# Altium schematic symbol library Connectors.SchLib: 80 symbols
Pins are listed as number, name and electrical type; pins without a type are passive.

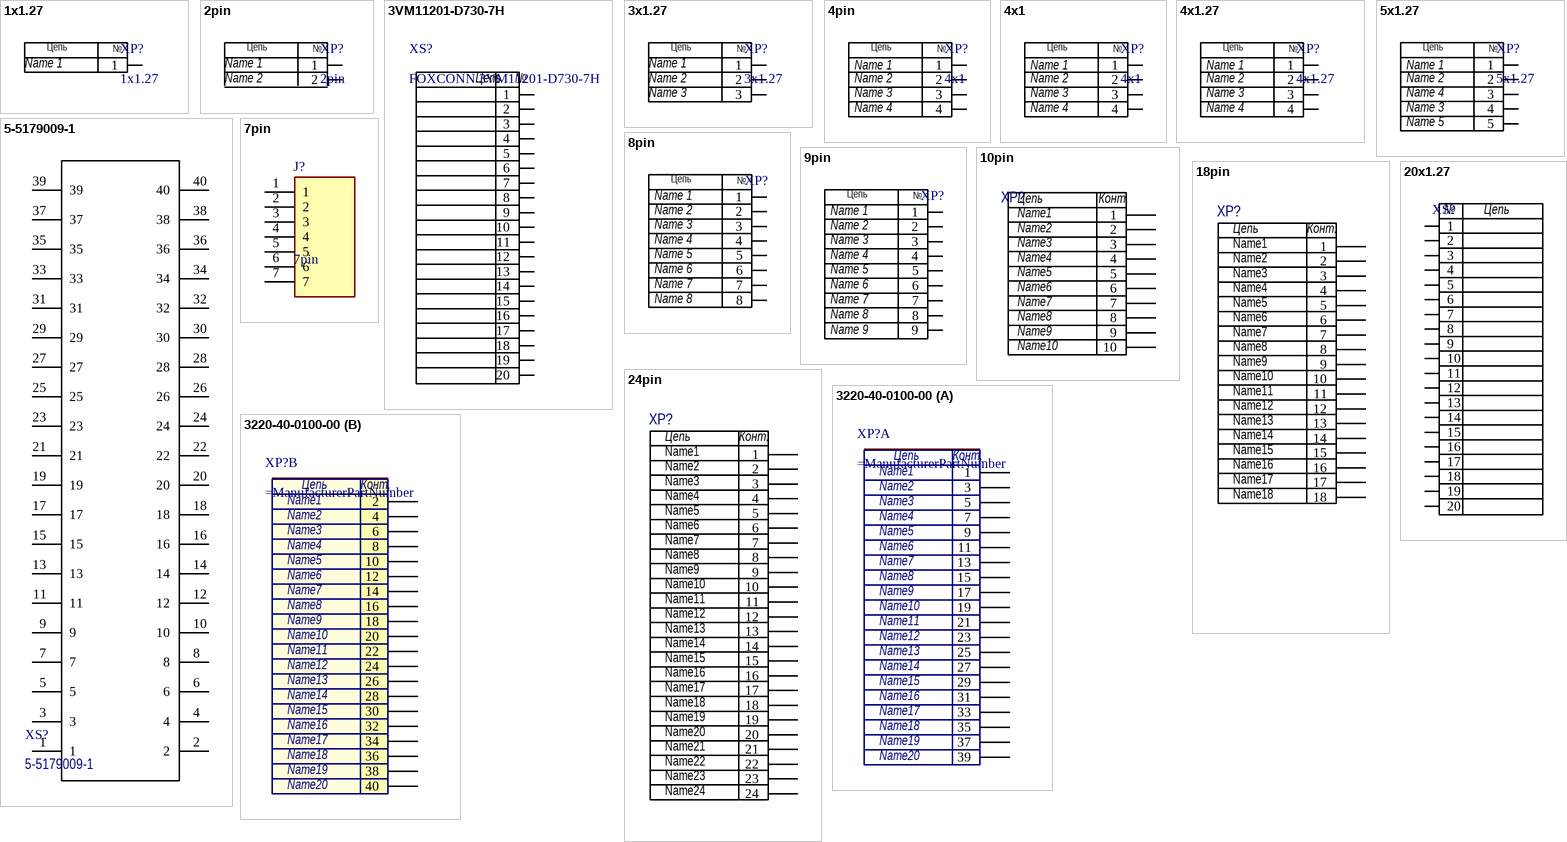
[diagram p0: symbols 1x1.27 to 3220-40-0100-00]

## 1x1.27
designator XP?  Parameter 1: Name 1
footprint 1X1.27
pins: 1
text: Цепь; №

## 2pin
designator XP?  Parameter 1: Name 1  Parameter 2: Name 2
footprint SCS_2pin (Rishena 302D 8pin connector implanted  electrode)
pins: 1, 2
text: Цепь; №

## 3VM11201-D730-7H
designator XS?, comment FOXCONN 3VM11201-D730-7H
DisplayPort (DP) Connector
footprint 3VM11201-D730-7H (FOXCONN Mini DisplayPort connector)
pins: 1, 2, 3, 4, 5, 6, 7, 8, 9, 10, 11, 12, 13, 14, 15, 16, 17, 18, 19, 20
text: Цепь; №

## 3x1.27
designator XP?  Parameter 1: Name 1  Parameter 2: Name 2  Parameter 3: Name 3
footprint 3X1.27
pins: 1, 2, 3
text: Цепь; №

## 4pin
designator XP?, comment 4x1  Parameter 4: Name 4  Parameter 3: Name 3  Parameter 2: Name 2  Parameter 1: Name 1
footprint 4X1.27
footprint 4X1 (Pads 0.61x2mm)
footprint SCS_302C - 4pin (Rishena 302C 4 pin connector implanted  electrode)
footprint SCS_302D (Rishena 302D 4pin connector implanted  electrode)
footprint Rishena- 4 pin - 5 Electrode (Rishena 4 pin -5 connector implanted  electrode,)
footprint Rishena- 4 pin - 2 Electrode (Rishena 4 pin -2 connector implanted  electrode,)
footprint RISHENA_ELECTRODE 2.8 (Rishena  4pin connector implanted  electrode)
pins: 1, 2, 3, 4
text: Цепь; №

## 4x1
designator XP?  Parameter 4: Name 4  Parameter 3: Name 3  Parameter 2: Name 2  Parameter 1: Name 1
footprint 4X1.27
footprint 4X1 (Pads 0.61x2mm)
pins: 1, 2, 3, 4
text: Цепь; №

## 4x1.27
designator XP?  Parameter 4: Name 4  Parameter 3: Name 3  Parameter 2: Name 2  Parameter 1: Name 1
footprint 4X1.27
pins: 1, 2, 3, 4
text: Цепь; №

## 5-5179009-1
designator XS?
Board to Board & Mezzanine Connectors 40P 9mm RECEPTACLE STACK HEIGHT 9-12mm
footprint 5-5179009-1
pins: 1, 2, 3, 4, 5, 6, 7, 8, 9, 10, 11, 12, 13, 14, 15, 16, 17, 18, 19, 20, 21, 22, 23, 24, 25, 26, 27, 28, 29, 30, 31, 32, 33, 34, 35, 36, 37, 38, 39, 40

## 5x1.27
designator XP?  Parameter 5: Name 5  Parameter 3: Name 3  Parameter 4: Name 4  Parameter 2: Name 2  Parameter 1: Name 1
footprint 5X1.27
pins: 1, 2, 3, 4, 5
text: Цепь; №

## 7pin
designator J?
Manufacturer_Name: TE Connectivity; Manufacturer_Part_Number: 5-103361-5; Geometry.Height: 5.918mm; Mouser Part Number: *; Mouser Price/Stock: *; Datasheet Link: https://www.te.com/commerce/DocumentDelivery/DDEController?Action=showdoc&DocId=Customer+Drawing%7F103361%7FN3%7Fpdf%7FEnglish%7FENG_CD_103361_N3.pdf%7F5-103361-5
footprint DS1022-7x1
pins: 1, 2, 3, 4, 5, 6, 7

## 8pin
designator XP?  Parameter 6: Name 6  Parameter 5: Name 5  Parameter 7: Name 7  Parameter 8: Name 8  Parameter 1: Name 1  Parameter 4: Name 4  Parameter 3: Name 3  Parameter 2: Name 2
footprint Electrode_SCS (connector implanted  electrode reused from Rishena PCB)
footprint 1x8x2.54
footprint SCS_302D - 8pin (Rishena 302D 8pin connector implanted  electrode)
footprint DS1125S80BP (female 8p8c(rj45))
footprint RISHENA_ELECTRODE (Rishena 302D 8pin connector implanted  electrode)
pins: 1, 2, 3, 4, 5, 6, 7, 8
text: Цепь; №

## 9pin
designator XP?  Parameter 9: Name 9  Parameter 6: Name 6  Parameter 5: Name 5  Parameter 7: Name 7  Parameter 8: Name 8  Parameter 1: Name 1  Parameter 4: Name 4  Parameter 3: Name 3  Parameter 2: Name 2
footprint Electrode_SCS (connector implanted  electrode reused from Rishena PCB)
footprint 4_5X2 (Pads 0.61x2mm)
pins: 1, 2, 3, 4, 5, 6, 7, 8, 9
text: Цепь; №

## 10pin
designator XP?  Net_name1: Name1  Net_name2: Name2  Net_name3: Name3  Net_name4: Name4  Net_name5: Name5  Net_name6: Name6  Net_name7: Name7  Net_name8: Name8  Net_name9: Name9  Net_name10: Name10
Manufacturer: Molex Inc; ManufacturerPartNumber: 53398-1071; Library: Connectors Molex; Group: 9375; RegulationProcent: 10; TypeName: Вилка; Distributor: Digi-Key; DistributorPartNumber: WM7614CT-ND; LatestRevisionDate: 08.07.13; Published: 05.06.13; Publisher: Auchinik D; Package: *; Code_IPC: *; Code_JEDEC: *
footprint 53398-1071 (PicoBlade™ 53398-1071)
footprint DS1023-10x1
footprint 10pad (Pads 0.61x2mm)
pins: 1, 2, 3, 4, 5, 6, 7, 8, 9, 10
text: Цепь; Конт.

## 18pin
designator XP?  Net_name17: Name17  Net_name18: Name18  Net_name12: Name12  Net_name13: Name13  Net_name14: Name14  Net_name15: Name15  Net_name16: Name16  Net_name11: Name11  Net_name1: Name1  Net_name2: Name2  Net_name3: Name3  Net_name4: Name4  Net_name5: Name5  Net_name6: Name6  Net_name7: Name7  Net_name8: Name8  Net_name9: Name9  Net_name10: Name10
any18pin; RegulationProcent: 10; TypeName: Female; Distributor: any; LatestRevisionDate: 08.07.13; Published: 30.01.2025; Package: *; Code_IPC: *; Code_JEDEC: *; ComponentLink1Description: Datasheet; ComponentLink1URL: https://www.lcsc.com/datasheet/lcsc_datasheet_2410122030_HRS-Hirose-ST60-24P-30_C22163186.pdf
footprint 3860B18S
footprint Hirose-ST60-18P(30) (SMD,P=0.5mm,Surface Mount,Right Angle Wire To Board Connector ROHS)
pins: 1, 2, 3, 4, 5, 6, 7, 8, 9, 10, 11, 12, 13, 14, 15, 16, 17, 18
text: Цепь; Конт.

## 20x1.27
designator XS?
footprint 20X1,27
pins: 1, 2, 3, 4, 5, 6, 7, 8, 9, 10, 11, 12, 13, 14, 15, 16, 17, 18, 19, 20
text: №; Цепь

## 24pin
designator XP?  Net_name17: Name17  Net_name24: Name24  Net_name23: Name23  Net_name22: Name22  Net_name21: Name21  Net_name20: Name20  Net_name19: Name19  Net_name18: Name18  Net_name12: Name12  Net_name13: Name13  Net_name14: Name14  Net_name15: Name15  Net_name16: Name16  Net_name11: Name11  Net_name1: Name1  Net_name2: Name2  Net_name3: Name3  Net_name4: Name4  Net_name5: Name5  Net_name6: Name6  Net_name7: Name7  Net_name8: Name8  Net_name9: Name9  Net_name10: Name10
any 24pin; RegulationProcent: 10; TypeName: Female; Distributor: any; DistributorPartNumber: WM7614CT-ND; LatestRevisionDate: 08.07.13; Published: 30.01.2025; Package: *; Code_IPC: *; Code_JEDEC: *; ComponentLink1Description: Datasheet; ComponentLink1URL: https://www.lcsc.com/datasheet/lcsc_datasheet_2410122030_HRS-Hirose-ST60-24P-30_C22163186.pdf
footprint Hirose-ST60-24P(30) (SMD,P=0.5mm,Surface Mount,Right Angle Wire To Board Connector ROHS)
pins: 1, 2, 3, 4, 5, 6, 7, 8, 9, 10, 11, 12, 13, 14, 15, 16, 17, 18, 19, 20, 21, 22, 23, 24
text: Цепь; Конт.

## 3220-40-0100-00
designator XP?
CONN HEADER VERT 40POS 1.27MM; Manufacturer: CNC Tech; ComponentLink1Description: Datasheet; ComponentLink1URL: http://www.cnctech.us/pdfs/3220-XX-0100-00_.pdf
footprint 3220-40-0100-00 (Connector Header Through Hole 40 position 0.050" (1.27mm))
part A pins: 1, 3, 5, 7, 9, 11, 13, 15, 17, 19, 21, 23, 25, 27, 29, 31, 33, 35, 37, 39
part B pins: 2, 4, 6, 8, 10, 12, 14, 16, 18, 20, 22, 24, 26, 28, 30, 32, 34, 36, 38, 40
part A text: Цепь; Конт.; Name1; Name2; Name3; Name4; Name5; Name6; Name7; Name8; Name9; Name10; Name11; Name12; Name13; Name14; Name15; Name16; Name17; Name18; Name19; Name20
part B text: Цепь; Конт.; Name1; Name2; Name3; Name4; Name5; Name6; Name7; Name8; Name9; Name10; Name11; Name12; Name13; Name14; Name15; Name16; Name17; Name18; Name19; Name20

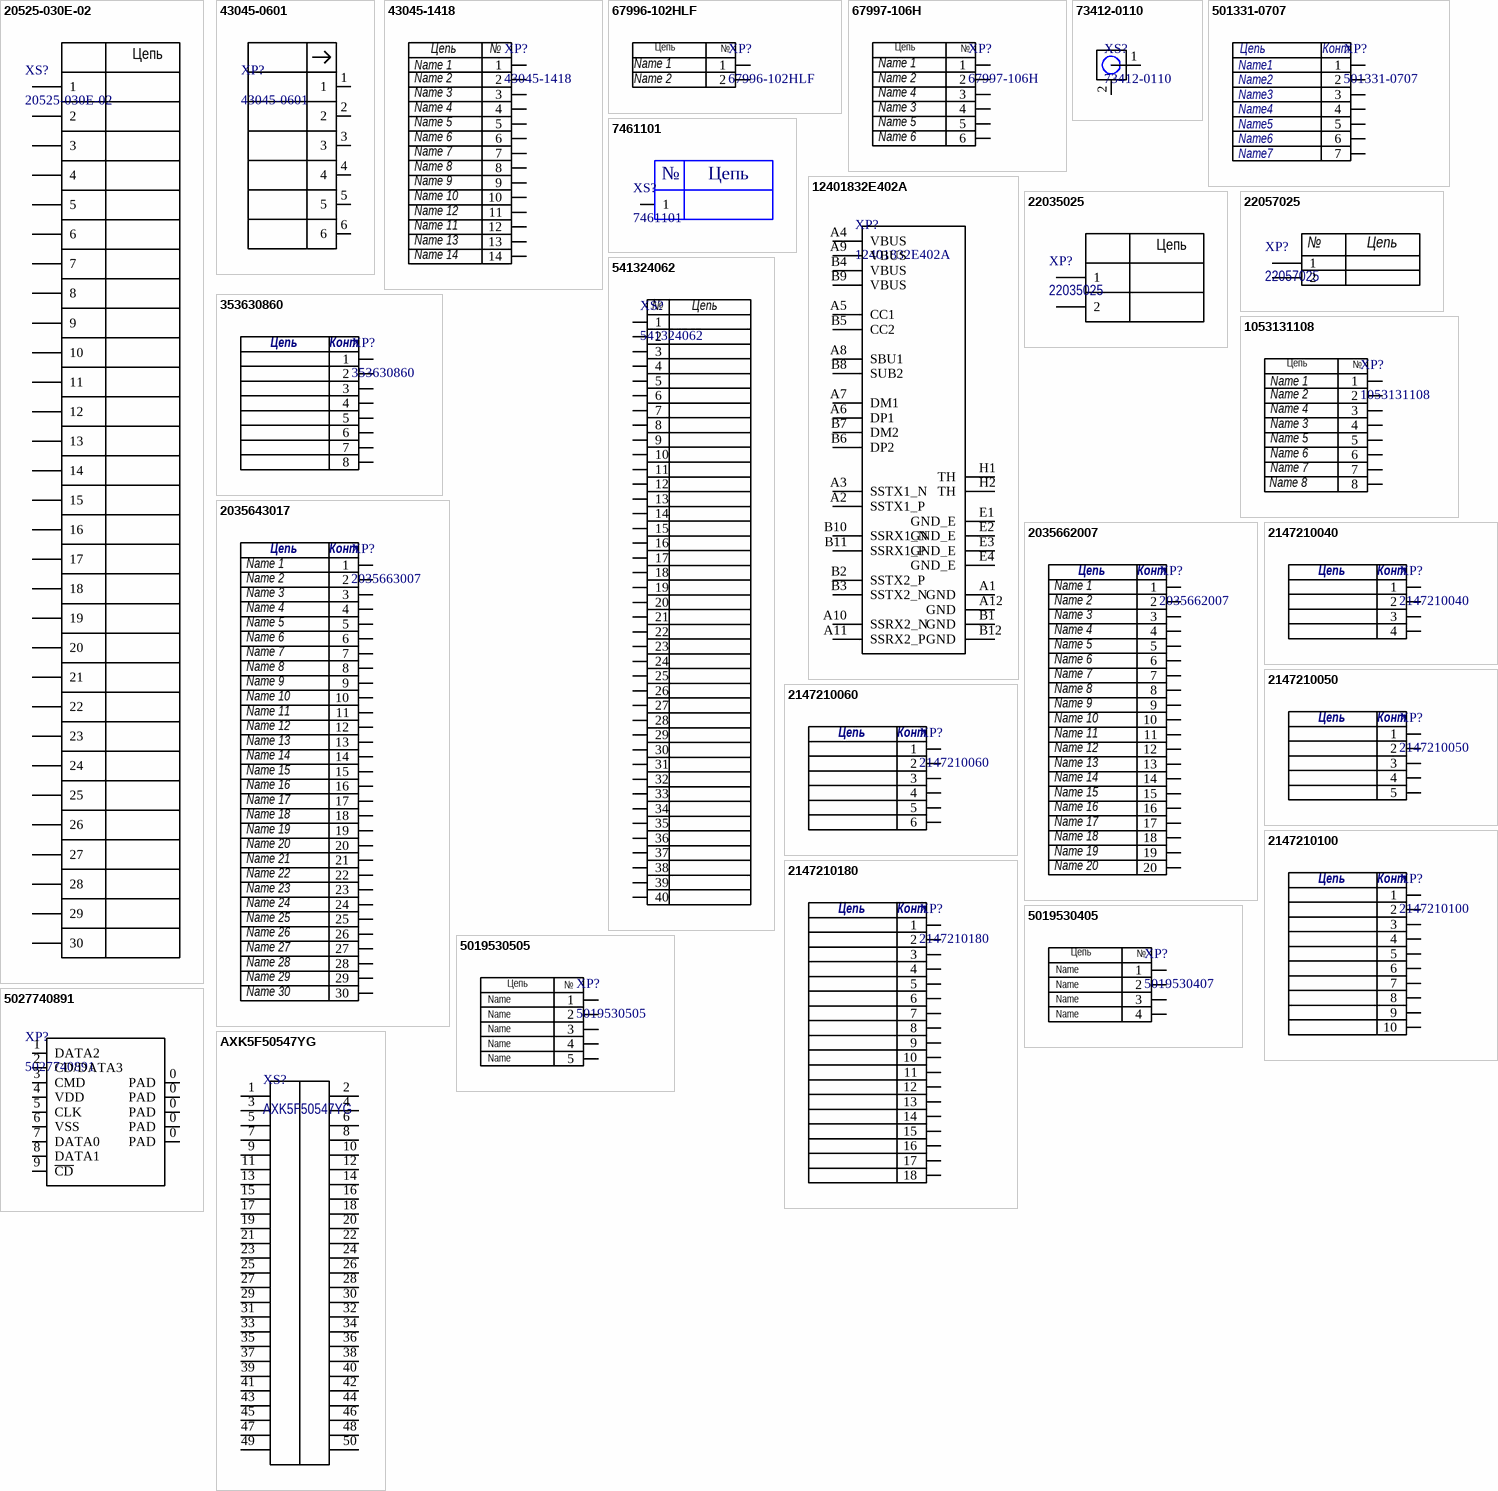
[diagram p1: symbols 20525-030E-02 to AXK5F50547YG]

## 20525-030E-02
designator XS?
0.4 mm pitch, Horizontal mating type Micro-coaxial connector with mechanical lock
footprint 20525-030E-02 (I-PEX)
pins: 1, 2, 3, 4, 5, 6, 7, 8, 9, 10, 11, 12, 13, 14, 15, 16, 17, 18, 19, 20, 21, 22, 23, 24, 25, 26, 27, 28, 29, 30
text: Цепь

## 43045-0601
designator XP?
CONN HEADER 6POS 2 ROWS 3MM R/A TIN
footprint 43045-0601
pins: 1, 2, 3, 4, 5, 6

## 43045-1418
designator XP?  Parameter 14: Name 14  Parameter 13: Name 13  Parameter 11: Name 11  Parameter 12: Name 12  Parameter 10: Name 10  Parameter 9: Name 9  Parameter 8: Name 8  Parameter 7: Name 7  Parameter 6: Name 6  Parameter 5: Name 5  Parameter 4: Name 4  Parameter 3: Name 3  Parameter 2: Name 2  Parameter 1: Name 1
Micro-Fit 3.0 Vertical Header, 3.00mm Pitch, Dual Row, 14 Circuits, with Solder Tab, Tin, Glow-Wire Capable, Black, Tape and Reel
footprint 43045-1418
pins: 1, 2, 3, 4, 5, 6, 7, 8, 9, 10, 11, 12, 13, 14
text: Цепь; №

## 67996-102HLF
designator XP?
Board to Board connector, Unshrouded vertical header, Through Hole, Double Row, 2 Positions, 2.54 mm (0.100in) Pitch; Name 2: Name 2; Name 1: Name 1
footprint 2X2.54
pins: 1, 2
text: Цепь; №

## 67997-106H
designator XP?  Parameter 6: Name 6  Parameter 5: Name 5  Parameter 3: Name 3  Parameter 4: Name 4  Parameter 2: Name 2  Parameter 1: Name 1
CONN HEADER VERT 6POS 2.54MM
footprint 67997-106H
pins: 1, 2, 3, 4, 5, 6
text: Цепь; №

## 73412-0110
designator XS?
50 Ohms, MCRF, PCB Vertical Jack Receptacle, SMT, 1.25mm Mounted Height
footprint 73412-0110 (Connector pigtail)
pins: 1, 2

## 501331-0707
designator XP?  Parameter 7: Name7  Parameter 6: Name6  Parameter 5: Name5  Parameter 4: Name4  Parameter 3: Name3  Parameter 2: Name2  Parameter 1: Name1
Headers & Wire Housings 1.0 WtB 7Ckt StrWaferAssyEmbsTpPk
footprint 501331-0707 (Headers & Wire Housings 1.0 WtB 7Ckt StrWaferAssyEmbsTpPk)
pins: 1, 2, 3, 4, 5, 6, 7
text: Цепь; Конт.

## 7461101
designator XS?
Terminals WP-RATR Pn-Plt 90Deg 6Pin 2Rw1.6Dia 100A
footprint КОНТАКТ 7461101
pins: 1
text: №; Цепь

## 12401832E402A
designator XP?
Surface Mount 24 Female Type-C SMD USB Connector
footprint USB-C2
pins: A1 GND, A2 SSTX1_P, A3 SSTX1_N, A4 VBUS, A5 CC1, A6 DP1, A7 DM1, A8 SBU1, A9 VBUS, A10 SSRX2_N, A11 SSRX2_P, A12 GND, B1 GND, B2 SSTX2_P, B3 SSTX2_N, B4 VBUS, B5 CC2, B6 DP2, B7 DM2, B8 SUB2, B9 VBUS, B10 SSRX1_N, B11 SSRX1_P, B12 GND, E1 GND_E, E2 GND_E, E3 GND_E, E4 GND_E, H1 TH, H2 TH

## 22035025
designator XP?
2.50mm Pitch, Mini-SPOX PCB Header, Single Row, Vertical, Through Hole, Tin Plating, 2 Circuits, Bag, 3.50mm PC Tail Length
footprint 22035025 (2.50mm Pitch, Mini-SPOX PCB Header)
pins: 1, 2
text: Цепь

## 22057025
designator XP?
2.50mm Pitch, Mini-SPOX PCB Header, Single Row, Right-Angle, Through Hole, Tin Plating, 2 Circuits, Bag, 3.50mm PC Tail Length
footprint 22057025
pins: 1, 2
text: №; Цепь

## 353630860
designator XP?
2.00mm Pitch Sherlock Wire-to-Board Header, Right-Angle, with Positive Lock, 8 Circuits
footprint 353630860
pins: 1, 2, 3, 4, 5, 6, 7, 8
text: Цепь; Конт

## 541324062
designator XS?
Easy-On FFC/FPC Connector, 0.50mm Pitch, Slider Series, Right-Angle, Bottom Contact, 2.00mm Height, 40 Circuits, Gold Plating
footprint 541324062
pins: 1, 2, 3, 4, 5, 6, 7, 8, 9, 10, 11, 12, 13, 14, 15, 16, 17, 18, 19, 20, 21, 22, 23, 24, 25, 26, 27, 28, 29, 30, 31, 32, 33, 34, 35, 36, 37, 38, 39, 40
text: №; Цепь

## 1053131108
designator XP?  Parameter 6: Name 6  Parameter 7: Name 7  Parameter 8: Name 8  Parameter 5: Name 5  Parameter 3: Name 3  Parameter 4: Name 4  Parameter 2: Name 2  Parameter 1: Name 1
CONN HEADER R/A 8POS 2.5MM
footprint 1053131108
pins: 1, 2, 3, 4, 5, 6, 7, 8
text: Цепь; №

## 2035643017
designator XP?, comment 2035663007  Parameter 21: Name 21  Parameter 22: Name 22  Parameter 23: Name 23  Parameter 24: Name 24  Parameter 25: Name 25  Parameter 26: Name 26  Parameter 27: Name 27  Parameter 28: Name 28  Parameter 29: Name 29  Parameter 30: Name 30  Parameter 20: Name 20  Parameter 19: Name 19  Parameter 18: Name 18  Parameter 17: Name 17  Parameter 16: Name 16  Parameter 14: Name 15  Parameter 15: Name 14  Parameter 13: Name 13  Parameter 12: Name 12  Parameter 11: Name 11  Parameter 10: Name 10  Parameter 9: Name 9  Parameter 8: Name 8  Parameter 7: Name 7  Parameter 6: Name 6  Parameter 5: Name 5  Parameter 4: Name 4  Parameter 3: Name 3  Parameter 2: Name 2  Parameter 1: Name 1
1.00mm Pitch, Pico-Clasp PCB Header, Dual Row, Right-Angle, Surface Mount, 0.38µm Gold Plated, Inner Positive Lock, 30 Circuits, Natural
footprint 2035663007
pins: 1, 2, 3, 4, 5, 6, 7, 8, 9, 10, 11, 12, 13, 14, 15, 16, 17, 18, 19, 20, 21, 22, 23, 24, 25, 26, 27, 28, 29, 30
text: Цепь; Конт

## 2035662007
designator XP?  Parameter 20: Name 20  Parameter 19: Name 19  Parameter 18: Name 18  Parameter 17: Name 17  Parameter 16: Name 16  Parameter 14: Name 15  Parameter 15: Name 14  Parameter 13: Name 13  Parameter 12: Name 12  Parameter 11: Name 11  Parameter 10: Name 10  Parameter 9: Name 9  Parameter 8: Name 8  Parameter 7: Name 7  Parameter 6: Name 6  Parameter 5: Name 5  Parameter 4: Name 4  Parameter 3: Name 3  Parameter 2: Name 2  Parameter 1: Name 1
1.00mm Pitch, Pico-Clasp PCB Header, Dual Row, Right-Angle, Surface Mount, 0.38µm Gold Plated, Inner Positive Lock, 20 Circuits, Natural
footprint 2035662007 (1.00mm Pitch, Pico-Clasp PCB Header, Dual Row, Right-Angle, Surface Mount, 0.38µm Gold Plated, Inner Positive Lock, 20 Circuits, Natural)
pins: 1, 2, 3, 4, 5, 6, 7, 8, 9, 10, 11, 12, 13, 14, 15, 16, 17, 18, 19, 20
text: Цепь; Конт

## 2147210040
designator XP?
Zero-Hachi Header, 0.80mm Pitch, Single Row, Right-Angle, Surface Mount, Matte Tin (Sn) Plating, Friction Lock, 4 Circuits
footprint 2147210040
pins: 1, 2, 3, 4
text: Цепь; Конт

## 2147210050
designator XP?
Zero-Hachi Header, 0.80mm Pitch, Single Row, Right-Angle, Surface Mount, Matte Tin (Sn) Plating, Friction Lock, 5 Circuits
footprint 2147210050
pins: 1, 2, 3, 4, 5
text: Цепь; Конт

## 2147210060
designator XP?
Zero-Hachi Header, 0.80mm Pitch, Single Row, Right-Angle, Surface Mount, Matte Tin (Sn) Plating, Friction Lock, 6 Circuits
footprint 2147210060
pins: 1, 2, 3, 4, 5, 6
text: Цепь; Конт

## 2147210100
designator XP?
Zero-Hachi Header, 0.80mm Pitch, Single Row, Right-Angle, Surface Mount, Matte Tin (Sn) Plating, Friction Lock, 10 Circuits
footprint 2147210100
pins: 1, 2, 3, 4, 5, 6, 7, 8, 9, 10
text: Цепь; Конт

## 2147210180
designator XP?
Zero-Hachi Header, 0.80mm Pitch, Single Row, Right-Angle, Surface Mount, Matte Tin (Sn) Plating, Friction Lock, 18 Circuits
footprint 2147210180
pins: 1, 2, 3, 4, 5, 6, 7, 8, 9, 10, 11, 12, 13, 14, 15, 16, 17, 18
text: Цепь; Конт

## 5019530405
designator XP?, comment 5019530407  Parameter 4: Name
1.00mm Pitch, Pico-Clasp PCB Header, Single Row, Right-Angle, Surface Mount, 1.01µm Tin Plated, Outer Positive Lock, 4 Circuits, Natural; Parameter 3: Name; Parameter 2: Name; Parameter 1: Name
footprint 5019530405
pins: 1, 2, 3, 4
text: Цепь; №

## 5019530505
designator XP?  Parameter 5: Name
1.00mm Pitch, Pico-Clasp PCB Header, Single Row, Right-Angle, Surface Mount, 0.10µm Gold Plated, Outer Positive Lock, 5 Circuits, Natural; Parameter 4: Name; Parameter 3: Name; Parameter 2: Name; Parameter 1: Name
footprint 5019530505
pins: 1, 2, 3, 4, 5
text: Цепь; №

## 5027740891
designator XP?
microSD Memory Card Connector
footprint 5027740891
pins: 0 PAD, 0 PAD, 0 PAD, 0 PAD, 0 PAD, 1 DATA2, 2 CD/DATA3, 3 CMD, 4 VDD, 5 CLK, 6 VSS, 7 DATA0, 8 DATA1, 9 ~{CD}

## AXK5F50547YG
designator XS?
0.5mm 2 50 Brick nogging SMD,P=0.5mm Mezzanine Connectors (Board to Board)
footprint AXK5F50547YG (Socket (Mated height: 2.5 mm))
pins: 1, 2, 3, 4, 5, 6, 7, 8, 9, 10, 11, 12, 13, 14, 15, 16, 17, 18, 19, 20, 21, 22, 23, 24, 25, 26, 27, 28, 29, 30, 31, 32, 33, 34, 35, 36, 37, 38, 39, 40, 41, 42 81, 43, 44 83, 45, 46 85, 47, 48 87, 49, 50 89

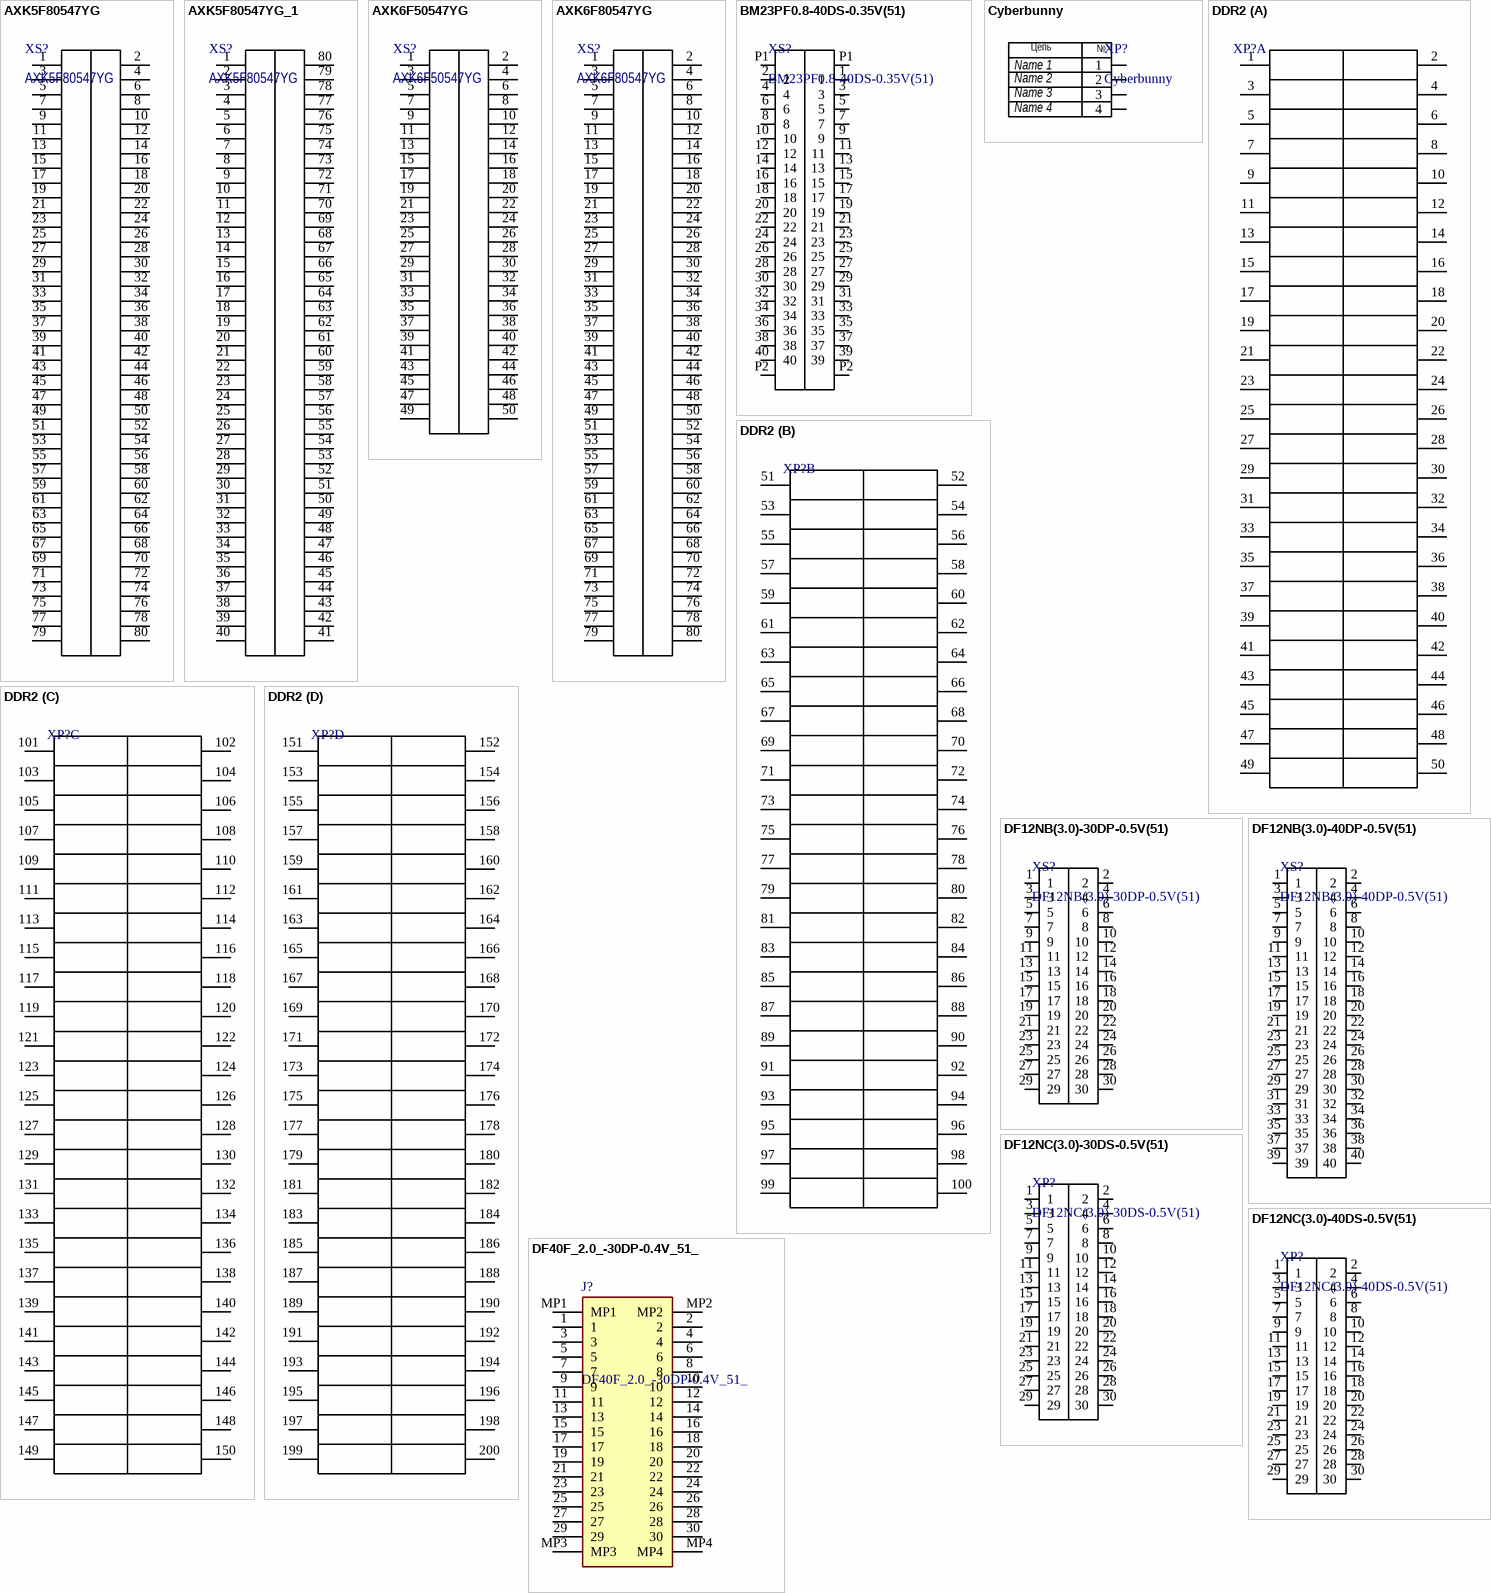
[diagram p2: symbols AXK5F80547YG to DF40F_2.0_-30DP-0.4V_51_]

## AXK5F80547YG
designator XS?
0.5mm 2 80 Brick nogging SMD,P=0.5mm Mezzanine Connectors (Board to Board)
footprint AXK5F80547YG (Socket (Mated height: 1.5 mm, 2.0 mm, 2.5 mm))
pins: 1, 2, 3, 4, 5, 6, 7, 8, 9, 10, 11, 12, 13, 14, 15, 16, 17, 18, 19, 20, 21, 22, 23, 24, 25, 26, 27, 28, 29, 30, 31, 32, 33, 34, 35, 36, 37, 38, 39, 40, 41, 42 81, 43, 44 83, 45, 46 85, 47, 48 87, 49, 50 89, 51, 52 91, 53, 54 93, 55, 56 95, 57, 58 97, 59, 60 99, 61, 62 101, 63, 64 103, 65, 66 105, 67, 68 107, 69, 70 109, 71, 72 111, 73, 74 113, 75, 76 115, 77, 78 117, 79, 80 119

## AXK5F80547YG_1
designator XS?, comment AXK5F80547YG
0.5mm 2 80 Brick nogging SMD,P=0.5mm Mezzanine Connectors (Board to Board)
footprint AXK5F80547YG - duplicate (Socket (Mated height: 1.5 mm, 2.0 mm, 2.5 mm))
pins: 1, 2, 3, 4, 5, 6, 7, 8, 9, 10, 11, 12, 13, 14, 15, 16, 17, 18, 19, 20, 21, 22, 23, 24, 25, 26, 27, 28, 29, 30, 31, 32, 33, 34, 35, 36, 37, 38, 39, 40, 41, 42, 43, 44, 45, 46, 47, 48, 49, 50, 51, 52, 53, 54, 55, 56, 57, 58, 59, 60, 61, 62, 63, 64, 65, 66, 67, 68, 69, 70, 71, 72, 73, 74, 75, 76, 77, 78, 79, 80

## AXK6F50547YG
designator XS?
0.5mm 2 50 Brick nogging SMD,P=0.5mm Mezzanine Connectors (Board to Board)
footprint AXK6F50547YG (Socket (Mated height: 2.5 mm))
pins: 1, 2, 3, 4, 5, 6, 7, 8, 9, 10, 11, 12, 13, 14, 15, 16, 17, 18, 19, 20, 21, 22, 23, 24, 25, 26, 27, 28, 29, 30, 31, 32, 33, 34, 35, 36, 37, 38, 39, 40, 41, 42 81, 43, 44 83, 45, 46 85, 47, 48 87, 49, 50 89

## AXK6F80547YG
designator XS?
0.5mm 2 80 Brick nogging SMD,P=0.5mm Mezzanine Connectors (Board to Board)
footprint AXK6F80547YG (Socket (Mated height: 23 mm, 3.3 mm, 2.5 mm))
pins: 1, 2, 3, 4, 5, 6, 7, 8, 9, 10, 11, 12, 13, 14, 15, 16, 17, 18, 19, 20, 21, 22, 23, 24, 25, 26, 27, 28, 29, 30, 31, 32, 33, 34, 35, 36, 37, 38, 39, 40, 41, 42 81, 43, 44 83, 45, 46 85, 47, 48 87, 49, 50 89, 51, 52 91, 53, 54 93, 55, 56 95, 57, 58 97, 59, 60 99, 61, 62 101, 63, 64 103, 65, 66 105, 67, 68 107, 69, 70 109, 71, 72 111, 73, 74 113, 75, 76 115, 77, 78 117, 79, 80 119

## BM23PF0.8-40DS-0.35V(51)
designator XS?
40 Position Connector Receptacle, Center Strip Contacts Surface Mount Gold
footprint BM23PF0.8-40DS-0.35V(51)
pins: 1, 2, 3, 4, 5, 6, 7, 8, 9, 10, 11, 12, 13, 14, 15, 16, 17, 18, 19, 20, 21, 22, 23, 24, 25, 26, 27, 28, 29, 30, 31, 32, 33, 34, 35, 36, 37, 38, 39, 40, P1, P1, P2, P2

## Cyberbunny
designator XP?  Parameter 4: Name 4  Parameter 3: Name 3  Parameter 2: Name 2  Parameter 1: Name 1
footprint 4X1.27
footprint 4X1 (Pads 0.61x2mm)
footprint Cyberbunny
pins: 1, 2, 3, 4
text: Цепь; №

## DDR2
designator XP?
footprint DDR2
part A pins: 1, 2, 3, 4, 5, 6, 7, 8, 9, 10, 11, 12, 13, 14, 15, 16, 17, 18, 19, 20, 21, 22, 23, 24, 25, 26, 27, 28, 29, 30, 31, 32, 33, 34, 35, 36, 37, 38, 39, 40, 41, 42, 43, 44, 45, 46, 47, 48, 49, 50
part B pins: 51, 52, 53, 54, 55, 56, 57, 58, 59, 60, 61, 62, 63, 64, 65, 66, 67, 68, 69, 70, 71, 72, 73, 74, 75, 76, 77, 78, 79, 80, 81, 82, 83, 84, 85, 86, 87, 88, 89, 90, 91, 92, 93, 94, 95, 96, 97, 98, 99, 100
part C pins: 101, 102, 103, 104, 105, 106, 107, 108, 109, 110, 111, 112, 113, 114, 115, 116, 117, 118, 119, 120, 121, 122, 123, 124, 125, 126, 127, 128, 129, 130, 131, 132, 133, 134, 135, 136, 137, 138, 139, 140, 141, 142, 143, 144, 145, 146, 147, 148, 149, 150
part D pins: 151, 152, 153, 154, 155, 156, 157, 158, 159, 160, 161, 162, 163, 164, 165, 166, 167, 168, 169, 170, 171, 172, 173, 174, 175, 176, 177, 178, 179, 180, 181, 182, 183, 184, 185, 186, 187, 188, 189, 190, 191, 192, 193, 194, 195, 196, 197, 198, 199, 200

## DF12NB(3.0)-30DP-0.5V(51)
designator XS?
Board to Board & Mezzanine Connectors CONN HDR 30POS SMD G
footprint DF12NB(3.0)-30DP-0.5V(51)
pins: 1, 2, 3, 4, 5, 6, 7, 8, 9, 10, 11, 12, 13, 14, 15, 16, 17, 18, 19, 20, 21, 22, 23, 24, 25, 26, 27, 28, 29, 30

## DF12NB(3.0)-40DP-0.5V(51)
designator XS?
Board to Board & Mezzanine Connectors CONN HDR 40POS SMD G
footprint DF12NB(3.0)-40DP-0.5V(51)
pins: 1, 2, 3, 4, 5, 6, 7, 8, 9, 10, 11, 12, 13, 14, 15, 16, 17, 18, 19, 20, 21, 22, 23, 24, 25, 26, 27, 28, 29, 30, 31, 32, 33, 34, 35, 36, 37, 38, 39, 40

## DF12NC(3.0)-30DS-0.5V(51)
designator XP?
Board to Board & Mezzanine Connectors CONN RCPT 30POS SMD
footprint DF12NB(3.0)-30DS-0.5V(51)
pins: 1, 2, 3, 4, 5, 6, 7, 8, 9, 10, 11, 12, 13, 14, 15, 16, 17, 18, 19, 20, 21, 22, 23, 24, 25, 26, 27, 28, 29, 30

## DF12NC(3.0)-40DS-0.5V(51)
designator XP?
Board to Board & Mezzanine Connectors CONN RCPT 40POS SMD
pins: 1, 2, 3, 4, 5, 6, 7, 8, 9, 10, 11, 12, 13, 14, 15, 16, 17, 18, 19, 20, 21, 22, 23, 24, 25, 26, 27, 28, 29, 30

## DF40F_2.0_-30DP-0.4V_51_
designator J?
Board to Board & Mezzanine Connectors Plug, 0.4 mm Pitch, 30pos., Straight, 0.3 A; Manufacturer_Name: Hirose; Manufacturer_Part_Number: DF40F(2.0)-30DP-0.4V(51); Geometry.Height: 3.3mm; Mouser Part Number: 798-DF40F2030DP04V51; Mouser Price/Stock: https://www.mouser.co.uk/ProductDetail/Hirose-Connector/DF40F2.0-30DP-0.4V51?qs=P%2FxahI%252BVehk2AkwwEyowBw%3D%3D; Datasheet Link: https://www.hirose.com/en/product/document?clcode=CL0684-4501-0-51&productname=DF40F(2.0)-30DP-0.4V(51)&series=DF40F&documenttype=2DDrawing&lang=en&documentid=0001500603
footprint DF40F2030DP04V51
pins: 1, 2, 3, 4, 5, 6, 7, 8, 9, 10, 11, 12, 13, 14, 15, 16, 17, 18, 19, 20, 21, 22, 23, 24, 25, 26, 27, 28, 29, 30, MP1, MP2, MP3, MP4

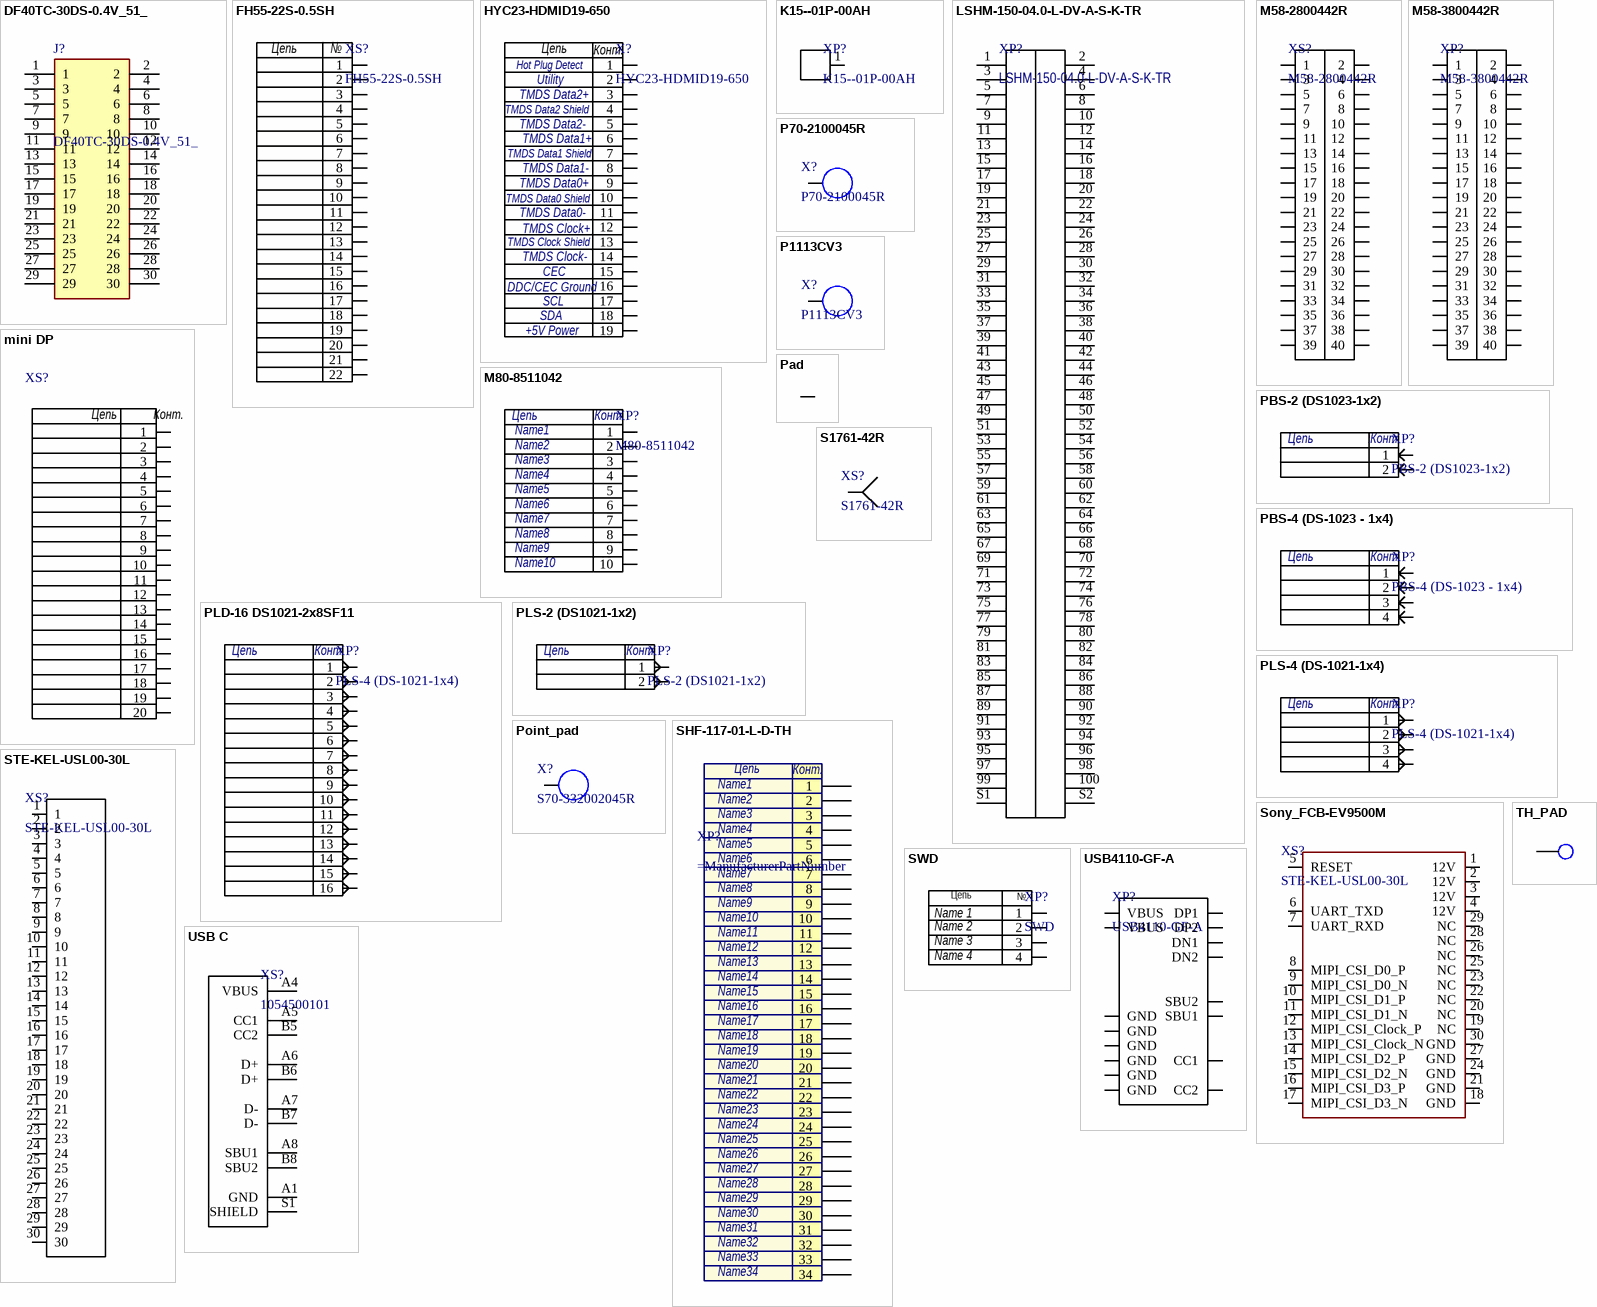
[diagram p3: symbols DF40TC-30DS-0.4V_51_ to USB C]

## DF40TC-30DS-0.4V_51_
designator J?
Board to Board & Mezzanine Connectors BOARD TO FPC CONN, RCPT, 30POS; Manufacturer_Name: Hirose; Manufacturer_Part_Number: DF40TC-30DS-0.4V(51); Geometry.Height: 1.6mm; Mouser Part Number: *; Mouser Price/Stock: *; Datasheet Link: https://www.hirose.com/en/product/document?clcode=CL0684-4261-0-51&productname=DF40TC-30DS-0.4V(51)&series=DF40T&documenttype=2DDrawing&lang=en&documentid=0001398480
footprint DF40TC30DS04V51
footprint DF40TC(4.0)-30DS-0.4V(51)
pins: 1, 2, 3, 4, 5, 6, 7, 8, 9, 10, 11, 12, 13, 14, 15, 16, 17, 18, 19, 20, 21, 22, 23, 24, 25, 26, 27, 28, 29, 30

## FH55-22S-0.5SH
designator XS?
footprint FH55-22S-0.5SH
pins: 1, 2, 3, 4, 5, 6, 7, 8, 9, 10, 11, 12, 13, 14, 15, 16, 17, 18, 19, 20, 21, 22
text: Цепь; №

## HYC23-HDMID19-650
designator X?
SMD microHDMI Connectors ROHS; Datasheet: https://www.lcsc.com/datasheet/lcsc_datasheet_2411220256_HOAUC-HYC23-HDMID19-650_C711358.pdf
footprint HYC23-HDMID19-650 (microHDMI)
pins: 1, 2, 3, 4, 5, 6, 7, 8, 9, 10, 11, 12, 13, 14, 15, 16, 17, 18, 19
text: Цепь; Конт.; Hot Plug Detect; Utility; TMDS Data2+; TMDS Data2 Shield; TMDS Data2-; TMDS Data1+; TMDS Data1 Shield; TMDS Data1-; TMDS Data0+; TMDS Data0 Shield; TMDS Data0-; TMDS Clock+; TMDS Clock Shield; TMDS Clock-; CEC; DDC/CEC Ground; SCL; SDA; +5V Power

## K15--01P-00AH
designator XP?
Клемма винтовая, угловая, 1 контакт, М3.5
footprint K15--01P-00AH
pins: 1

## LSHM-150-04.0-L-DV-A-S-K-TR
designator XP?
HIGH SPEED HERMAPHRODITIC STRIP
footprint LSHM-150-04.0-L-DV-A-S-K-TR
pins: 1, 2, 3, 4, 5, 6, 7, 8, 9, 10, 11, 12, 13, 14, 15, 16, 17, 18, 19, 20, 21, 22, 23, 24, 25, 26, 27, 28, 29, 30, 31, 32, 33, 34, 35, 36, 37, 38, 39, 40, 41, 42, 43, 44, 45, 46, 47, 48, 49, 50, 51, 52, 53, 54, 55, 56, 57, 58, 59, 60, 61, 62, 63, 64, 65, 66, 67, 68, 69, 70, 71, 72, 73, 74, 75, 76, 77, 78, 79, 80, 81, 82, 83, 84, 85, 86, 87, 88, 89, 90, 91, 92, 93, 94, 95, 96, 97, 98, 99, 100, S1, S2

## M58-2800442R
designator XS?
20+20 Pos. Female DIL Vertical SMT Conn. (T+R)
footprint M58-2800442R
pins: 1, 2, 3, 4, 5, 6, 7, 8, 9, 10, 11, 12, 13, 14, 15, 16, 17, 18, 19, 20, 21, 22, 23, 24, 25, 26, 27, 28, 29, 30, 31, 32, 33, 34, 35, 36, 37, 38, 39, 40

## M58-3800442R
designator XP?
20+20 Pos. Male DIL Vertical SMT Conn. (T+R)
footprint M58-3800442R
pins: 1, 2, 3, 4, 5, 6, 7, 8, 9, 10, 11, 12, 13, 14, 15, 16, 17, 18, 19, 20, 21, 22, 23, 24, 25, 26, 27, 28, 29, 30, 31, 32, 33, 34, 35, 36, 37, 38, 39, 40

## M80-8511042
designator XP?  Parameter 8: Name8  Parameter 9: Name9  Parameter 10: Name10  Parameter 7: Name7  Parameter 6: Name6  Parameter 5: Name5  Parameter 4: Name4  Parameter 3: Name3  Parameter 2: Name2  Parameter 1: Name1
Headers & Wire Housings 5+5 POS DIL MALE R/A LATCHED TIN
footprint M80-8511042
pins: 1, 2, 3, 4, 5, 6, 7, 8, 9, 10
text: Цепь; Конт.

## mini DP
designator XS?
DP 20pin; Supplier 1: Farnell; Supplier Part Number 1: 3794216
footprint CONN_2129320-3 (DisplayPort, Mini Receptacle Connector 20 Position Through Hole, Right Angle)
pins: 1G 1, 2, 3, 4, 5, 6, 7G 7, 8G 8, 9, 10, 11, 12, 13G 13, 14G 14, 15, 16, 17, 18, 19G 19, 20_POWER 20
text: Цепь; Конт.

## P70-2100045R
designator X?
Pogo-pin P70-2100045R
footprint P70-2100045R
pins: 1

## P1113CV3
designator X?
Pogo-pin P1113CV3
footprint P1113CV3
pins: 1

## Pad
designator XS?  (value not drawn)  (no BOM)
footprint Pad
pins: 1

## PBS-2 (DS1023-1x2)
designator XP?
Гнездо на плату 2.54мм 1х2pin прямое
footprint PBS-2 (DS-1023 - 1x2) (2 point header)
pins: 1, 2
text: Цепь; Конт.

## PBS-4 (DS-1023 - 1x4)
designator XP?
Гнездо на плату 2.54мм 1х4pin прямое
footprint PBS-4 (DS-1023 - 1x4) (4 point header)
pins: 1, 2, 3, 4
text: Цепь; Конт.

## PLD-16 DS1021-2x8SF11
designator XP?, comment PLS-4 (DS-1021-1x4)
Вилка штыревая 2.54мм 1x4pin прямая
footprint PLD-16 DS1021-2x8SF11
pins: 1, 2, 3, 4, 5, 6, 7, 8, 9, 10, 11, 12, 13, 14, 15, 16
text: Цепь; Конт.

## PLS-2 (DS1021-1x2)
designator XP?
Вилка штыревая 2.54мм 1x2pin прямая
footprint PLS-2 (DS1021-1x2) (2 point header)
pins: 1, 2
text: Цепь; Конт.

## PLS-4 (DS-1021-1x4)
designator XP?
Вилка штыревая 2.54мм 1x4pin прямая
footprint PLS-4 (DS-1021-1x4) (4 point header)
pins: 1, 2, 3, 4
text: Цепь; Конт.

## Point_pad
designator X?, comment S70-332002045R
footprint Point_pad
pins: 1

## S1761-42R
designator XS?
3.50mm SMT Spring Contact
footprint S1761-42R (3.50mm SMT Spring Contact)
pins: 1

## SHF-117-01-L-D-TH
designator XP?
CONN HEADER VERT 34POS 1.27MM; Manufacturer: Samtec Inc.; Library: Connectors; ComponentLink1Description: Datasheet; ComponentLink1URL: https://mm.digikey.com/Volume0/opasdata/d220001/medias/docus/6129/shf-1xx-01-x-d-xx-xx-xx-mkt.pdf; ComponentLink2Description: Models; ComponentLink2URL: https://www.samtec.com/partnumber/shf-117-01-l-d-th?vendor=Digikey#models; Distributor: Digi-Key; DistributorPartNumber: SAM11775-ND; LatestRevisionDate: 08.2024
footprint SHF-117-01-L-D-TH (CONN HEADER VERT 34POS 1.27MM)
pins: 1, 2, 3, 4, 5, 6, 7, 8, 9, 10, 11, 12, 13, 14, 15, 16, 17, 18, 19, 20, 21, 22, 23, 24, 25, 26, 27, 28, 29, 30, 31, 32, 33, 34
text: Цепь; Конт.; Name1; Name2; Name3; Name4; Name5; Name6; Name7; Name8; Name9; Name10; Name11; Name12; Name13; Name14; Name15; Name16; Name17; Name18; Name19; Name20; Name21; Name22; Name23; Name24; Name25; Name26; Name27; Name28; Name29; Name30; Name31; Name32; Name33; Name34

## Sony_FCB-EV9500M
designator XS?, comment STE-KEL-USL00-30L
footprint STE-KEL-USL00-30L
pins: 1 12V, 2 12V, 3 12V, 4 12V, 5 RESET, 6 UART_TXD, 7 UART_RXD, 8 MIPI_CSI_D0_P, 9 MIPI_CSI_D0_N, 10 MIPI_CSI_D1_P, 11 MIPI_CSI_D1_N, 12 MIPI_CSI_Clock_P, 13 MIPI_CSI_Clock_N, 14 MIPI_CSI_D2_P, 15 MIPI_CSI_D2_N, 16 MIPI_CSI_D3_P, 17 MIPI_CSI_D3_N, 18 GND, 19 NC, 20 NC, 21 GND, 22 NC, 23 NC, 24 GND, 25 NC, 26 NC, 27 GND, 28 NC, 29 NC, 30 GND

## STE-KEL-USL00-30L
designator XS?
footprint STE-KEL-USL00-30L
pins: 1, 2, 3, 4, 5, 6, 7, 8, 9, 10, 11, 12, 13, 14, 15, 16, 17, 18, 19, 20, 21, 22, 23, 24, 25, 26, 27, 28, 29, 30

## SWD
designator XP?  Parameter 4: Name 4  Parameter 3: Name 3  Parameter 2: Name 2  Parameter 1: Name 1
footprint SWD
pins: 1, 2, 3, 4
text: Цепь; №

## TH_PAD
designator *  (value not drawn)
footprint Pad
pins: 1

## USB4110-GF-A
designator XP?
CONN RCP USB2.0 TYP C 24P SMD RA
footprint GCT_USB4110GFA
pins: A1/B12 GND, A4/B9 VBUS, A5 CC1, A6 DP1, A7 DN1, A8 SBU1, B1/A12 GND, B4/A9 VBUS, B5 CC2, B6 DP2, B7 DN2, B8 SBU2, S1 GND, S2 GND, S3 GND, S4 GND

## USB C
designator XS?, comment 1054500101
USB 3.2 1 24P Female -30℃~+85℃ Type-C SMD USB Connectors ROHS
footprint USB C (1054500101)
pins: A1 GND, A4 VBUS, A5 CC1, A6 D+, A7 D-, A8 SBU1, B5 CC2, B6 D+, B7 D-, B8 SBU2, S1 SHIELD